# Altium schematic symbol library Miniature_Test_Point.Schlib: 1 symbol
Pins are listed as number, name and electrical type; pins without a type are passive.

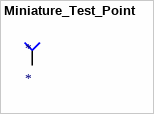
[diagram p0: symbol Miniature_Test_Point]

## Miniature_Test_Point
designator *
pins: 1